# Altium footprint library gini_base_pcb.PCBLIB: 175 footprints (part 11 of 11)
Each footprint in its own frame and in the unit in brackets; x right, y up, seen from the top. Pads: shape width x height; smd on the part's side, far side on the other; paste and mask are expansions set on the pad; w line width, h text height; cw(c..) or ccw(c..) is an arc to the next point about the centre after c.
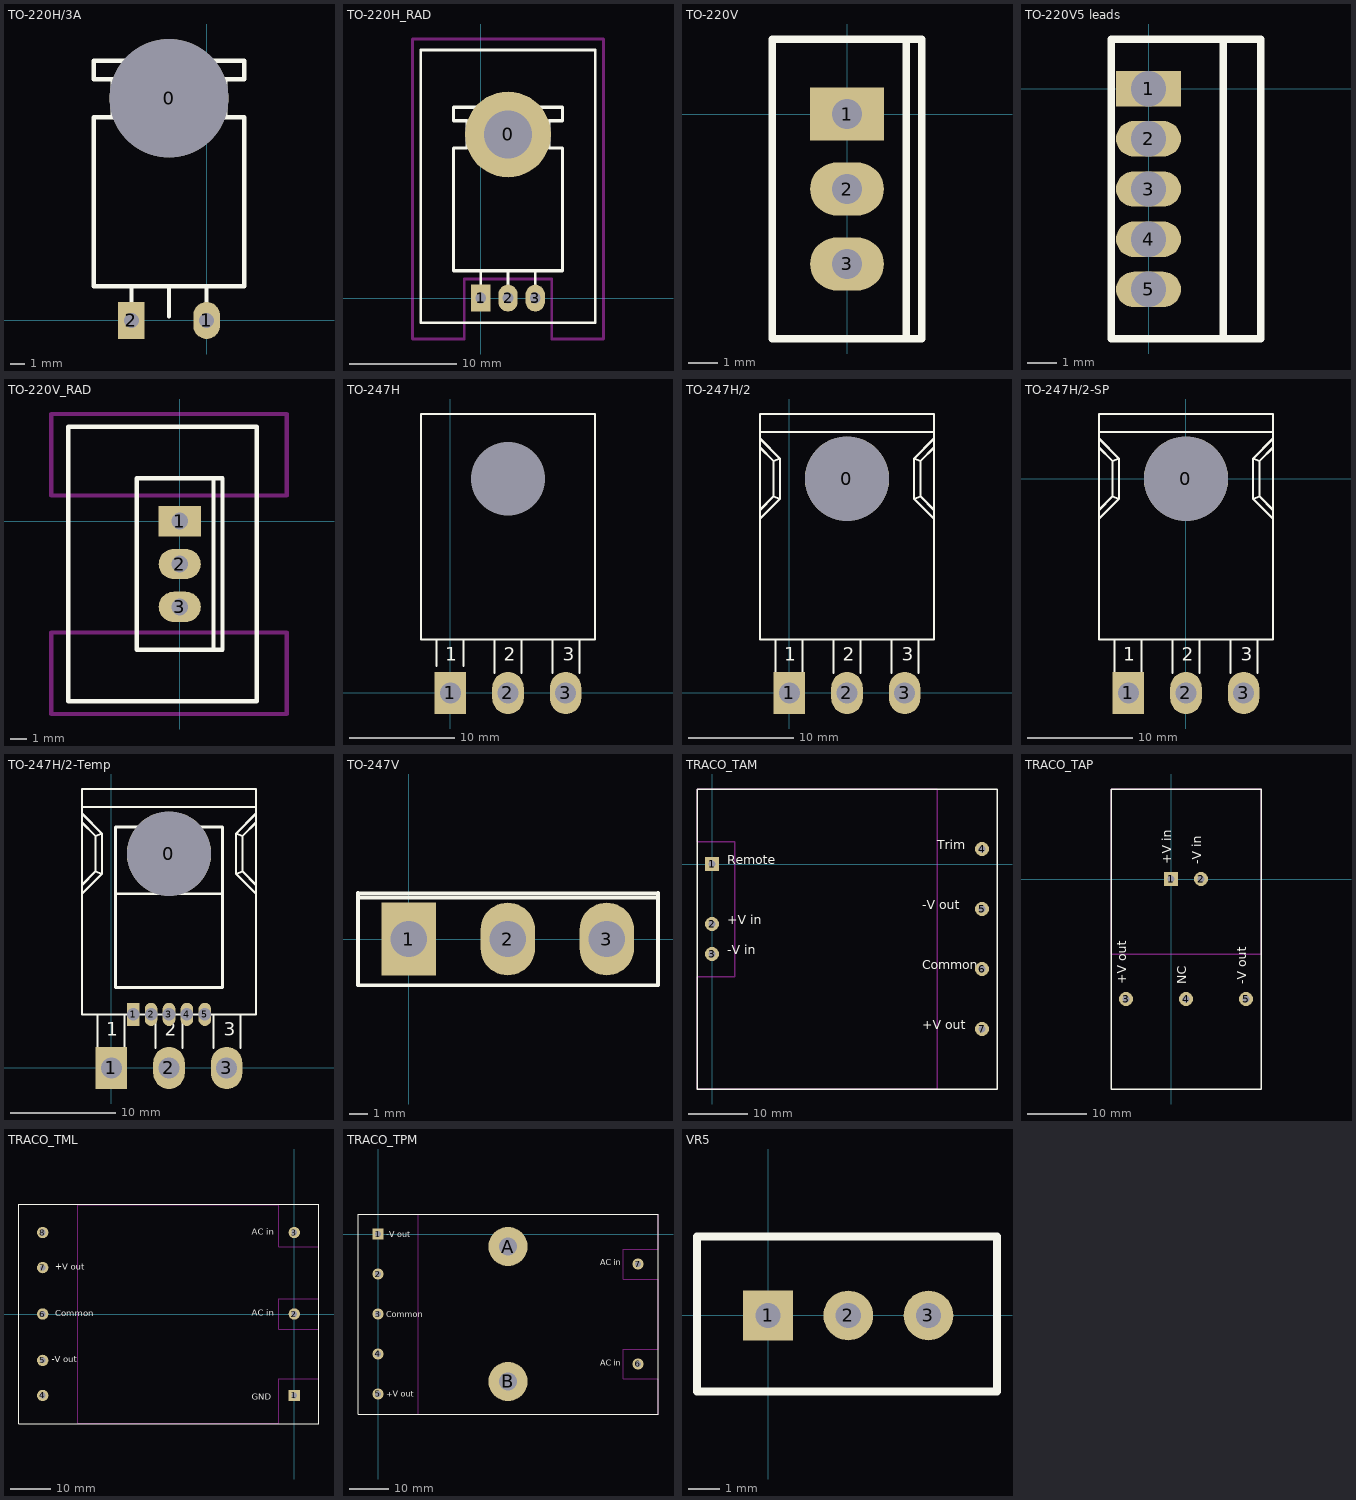
[diagram p10: the footprints below, top view; thin cyan lines are the x and y axes]

## TO-220H/3A [mm] "Pour fixation sur dissipateur en bottom"
pads (3):
  round 8 hole 8: 0(-2.54,15)
  oval 1.8x2.5 hole 1: 1(0,0)
  rect 1.8x2.5 hole 1: 2(-5.08,0)
TopOverlay:
  lines w0.254: -5.08,0.268 -5.08,2.3 ; -2.54,0.268 -2.54,2.3 ; 0,0.268 0,2.3
  lines w0.305: -7.62,2.3 2.54,2.3 2.54,13.73 1.27,13.73 1.27,16.27 2.54,16.27 2.54,17.54 -7.62,17.54 -7.62,16.27 -6.35,16.27 -6.35,13.73 -7.62,13.73 -7.62,2.3

## TO-220H_RAD [mm]
pads (4):
  round 8 hole 4.5: 0(2.54,15.24)
  rect 1.8x2.5 hole 1: 1(0,0)
  oval 1.8x2.5 hole 1: 2(2.54,0) 3(5.08,0)
TopLayer keep-out:
  lines w0.254: -6.35,-3.81 -1.524,-3.81 -1.524,1.778 6.604,1.778 6.604,-3.81 11.43,-3.81 11.43,24.13 -6.35,24.13 -6.35,-3.81
TopOverlay:
  lines w0.254: 0,0.508 0,2.54 ; 2.54,0.508 2.54,2.54 ; 5.08,0.508 5.08,2.54 ; -5.588,-2.286 10.668,-2.286 10.668,23.114 -5.588,23.114 -5.588,-2.286
  lines w0.305: -2.54,2.54 -2.54,13.97 -1.27,13.97 -1.27,16.51 -2.54,16.51 -2.54,17.78 7.62,17.78 7.62,16.51 6.35,16.51 6.35,13.97 7.62,13.97 7.62,2.54 -2.54,2.54

## TO-220V [mm]
pads (3):
  rect 2.5x1.8 hole 1: 1(0,0)
  oval 2.5x1.8 hole 1: 2(0,-2.54) 3(0,-5.08)
TopOverlay:
  lines w0.254: 2,-7.62 2,2.54 ; -2.54,-7.62 -2.54,2.54 2.54,2.54 2.54,-7.62 -2.54,-7.62

## TO-220V5 leads [mm]
pads (5):
  rect 2.2x1.2 hole 1.2: 1(0,0)
  oval 2.2x1.2 hole 1.2: 2(0,-1.7) 3(0,-3.4) 4(0,-5.1) 5(0,-6.8)
TopOverlay:
  lines w0.254: 2.54,-8.48 2.54,1.68 ; -1.27,-8.48 3.81,-8.48 3.81,1.68 -1.27,1.68 -1.27,-8.48

## TO-220V_RAD [mm]
pads (3):
  rect 2.5x1.8 hole 1: 1(0,0)
  oval 2.5x1.8 hole 1: 2(0,-2.54) 3(0,-5.08)
TopLayer keep-out:
  lines w0.254: -7.62,-11.43 6.35,-11.43 6.35,-6.604 -7.62,-6.604 -7.62,-11.43 ; -7.62,1.524 -7.62,6.35 6.35,6.35 6.35,1.524 -7.62,1.524
TopOverlay:
  lines w0.254: 2,-7.62 2,2.54 ; -6.604,-10.668 -6.604,5.588 4.572,5.588 4.572,-10.668 -6.604,-10.668 ; -2.54,-7.62 2.54,-7.62 2.54,2.54 -2.54,2.54 -2.54,-7.62

## TO-247H [mm]
pads (4):
  rect 3x4 hole 2: 1(0,0)
  oval 3x4 hole 2: 2(5.461,0) 3(10.922,0)
  round 0 hole 7: ""(5.461,20.32)
TopOverlay:
  lines w0.2: -1.312,2.54 -1.312,5.08 ; 1.228,2.54 1.228,5.08 ; 4.191,1.905 4.191,5.08 ; 6.731,1.905 6.731,5.08 ; 9.694,1.905 9.694,5.08 ; 12.234,1.905 12.234,5.08 ; -2.794,5.08 -2.794,26.458 13.716,26.458 13.716,5.08 -2.794,5.08
  text "3" at 10.668,3.048 h1.27
  text "2" at 5.08,3.048 h1.27
  text "1" at -0.508,3.048 h1.27

## TO-247H/2 [mm]
pads (4):
  round 8 hole 8: 0(5.461,20.32)
  rect 3x4 hole 2: 1(0,0)
  oval 3x4 hole 2: 2(5.461,0) 3(10.922,0)
TopOverlay:
  lines w0.2: -2.794,16.51 -0.889,18.415 ; -2.794,17.357 -1.524,18.627 ; -2.794,23.283 -1.524,22.013 ; -2.794,24.13 -0.889,22.225 ; -2.794,24.765 13.716,24.765 ; -1.312,1.905 -1.312,5.08 ; 1.228,1.905 1.228,5.08 ; 4.191,1.905 4.191,5.08 ; 6.731,1.905 6.731,5.08 ; 9.694,1.905 9.694,5.08 ; 12.234,1.905 12.234,5.08 ; 13.716,16.51 11.811,18.415 ; 13.716,17.357 12.446,18.627 ; 13.716,23.283 12.446,22.013 ; 13.716,24.13 11.811,22.225 ; -1.524,18.627 -1.524,22.013 ; -1.524,18.627 -0.889,18.415 ; -1.524,22.013 -0.889,22.225 ; -0.889,18.415 -0.889,22.225 ; 11.811,18.415 11.811,22.225 ; 11.811,18.415 12.446,18.627 ; 11.811,22.225 12.446,22.013 ; 12.446,18.627 12.446,22.013 ; -2.794,5.08 13.716,5.08 13.716,26.458 -2.794,26.458 -2.794,5.08
  text "1" at -0.508,3.048 h1.27
  text "2" at 5.08,3.048 h1.27
  text "3" at 10.668,3.048 h1.27

## TO-247H/2-SP [mm]
pads (4):
  round 8 hole 8: 0(0,0)
  rect 3x4 hole 2: 1(-5.461,-20.32)
  oval 3x4 hole 2: 2(0,-20.32) 3(5.461,-20.32)
TopOverlay:
  lines w0.2: -8.255,-3.81 -6.35,-1.905 ; -8.255,-2.963 -6.985,-1.693 ; -8.255,2.963 -6.985,1.693 ; -8.255,3.81 -6.35,1.905 ; -8.255,4.445 8.255,4.445 ; -6.773,-18.415 -6.773,-15.24 ; -4.233,-18.415 -4.233,-15.24 ; -1.27,-18.415 -1.27,-15.24 ; 1.27,-18.415 1.27,-15.24 ; 4.233,-18.415 4.233,-15.24 ; 6.773,-18.415 6.773,-15.24 ; 8.255,-3.81 6.35,-1.905 ; 8.255,-2.963 6.985,-1.693 ; 8.255,2.963 6.985,1.693 ; 8.255,3.81 6.35,1.905 ; -6.985,-1.693 -6.35,-1.905 ; -6.985,-1.693 -6.985,1.693 ; -6.985,1.693 -6.35,1.905 ; -6.35,-1.905 -6.35,1.905 ; 6.35,-1.905 6.985,-1.693 ; 6.35,-1.905 6.35,1.905 ; 6.35,1.905 6.985,1.693 ; 6.985,-1.693 6.985,1.693 ; -8.255,-15.24 -8.255,6.138 8.255,6.138 8.255,-15.24 -8.255,-15.24
  text "3" at 5.207,-17.272 h1.27
  text "2" at -0.381,-17.272 h1.27
  text "1" at -5.969,-17.272 h1.27

## TO-247H/2-Temp [mm]
pads (9):
  round 8 hole 8: 0(5.461,20.32)
  rect 3x4 hole 2: 1(0,0)
  rect 1.2x2.2 hole 1.2: 1(2.061,5.08)
  oval 1.2x2.2 hole 1.2: 2(3.761,5.08) 3(5.461,5.08) 4(7.161,5.08) 5(8.861,5.08)
  oval 3x4 hole 2: 2(5.461,0) 3(10.922,0)
TopOverlay:
  lines w0.2: -2.794,16.51 -0.889,18.415 ; -2.794,17.357 -1.524,18.627 ; -2.794,23.283 -1.524,22.013 ; -2.794,24.13 -0.889,22.225 ; -2.794,24.765 13.716,24.765 ; -1.312,1.905 -1.312,5.08 ; 1.228,1.905 1.228,5.08 ; 4.191,1.905 4.191,5.08 ; 6.731,1.905 6.731,5.08 ; 9.694,1.905 9.694,5.08 ; 12.234,1.905 12.234,5.08 ; 13.716,16.51 11.811,18.415 ; 13.716,17.357 12.446,18.627 ; 13.716,23.283 12.446,22.013 ; 13.716,24.13 11.811,22.225 ; -1.524,18.627 -0.889,18.415 ; -1.524,18.627 -1.524,22.013 ; -1.524,22.013 -0.889,22.225 ; -0.889,18.415 -0.889,22.225 ; 11.811,18.415 12.446,18.627 ; 11.811,18.415 11.811,22.225 ; 11.811,22.225 12.446,22.013 ; 12.446,18.627 12.446,22.013 ; -2.794,5.08 -2.794,26.458 13.716,26.458 13.716,5.08 -2.794,5.08
  lines w0.254: 0.381,16.51 10.541,16.51 ; 0.381,7.62 10.541,7.62 10.541,22.86 0.381,22.86 0.381,7.62
  text "3" at 10.668,3.048 h1.27
  text "2" at 5.08,3.048 h1.27
  text "1" at -0.508,3.048 h1.27

## TO-247V [mm]
pads (3):
  rect 3x4 hole 2: 1(0,0)
  oval 3x4 hole 2: 2(5.45,0) 3(10.9,0)
TopOverlay:
  lines w0.2: -2.794,2.286 13.716,2.286 ; -2.794,2.527 13.716,2.527 ; -2.794,2.54 -2.794,-2.54 13.716,-2.54 13.716,2.54
3D body: height 24.03, standoff -12.03, extent -2.159,-2.54 13.081,2.032

## TRACO_TAM [mm]
pads (7):
  rect 2.4x2.4 hole 1.2: 1(0,0)
  round 2.4 hole 1.2: 2(0,-10.16) 3(0,-15.24) 4(45.72,2.54) 5(45.72,-7.62) 6(45.72,-17.78) 7(45.72,-27.94)
TopLayer keep-out:
  lines w0.254: -2.54,-38.1 38.1,-38.1 38.1,12.7 -2.54,12.7 -2.54,3.81 3.81,3.81 3.81,-19.05 -2.54,-19.05 -2.54,-38.1
TopOverlay:
  lines w0.254: -2.54,-38.1 48.26,-38.1 48.26,12.7 -2.54,12.7 -2.54,-38.1
  text "+V out" at 35.56,-27.94 h1.52
  text "Common" at 35.56,-17.78 h1.52
  text "-V out" at 35.56,-7.62 h1.52
  text "Trim" at 38.1,2.54 h1.52
  text "-V in" at 2.54,-15.24 h1.52
  text "+V in" at 2.54,-10.16 h1.52
  text "Remote" at 2.54,0 h1.52

## TRACO_TAP [mm]
pads (5):
  rect 2.4x2.4 hole 1.2: 1(0,0)
  round 2.4 hole 1.2: 2(5.08,0) 3(-7.62,-20.32) 4(2.54,-20.32) 5(12.7,-20.32)
TopLayer keep-out:
  lines w0.254: -10.16,-12.7 -10.16,15.24 15.24,15.24 15.24,-12.7 -10.16,-12.7
TopOverlay:
  lines w0.254: -10.16,-35.56 15.24,-35.56 15.24,15.24 -10.16,15.24 -10.16,-35.56
  text "+V in" at 0,2.54 h1.52
  text "-V in" at 5.08,2.54 h1.52
  text "+V out" at -7.62,-17.78 h1.52
  text "-V out" at 12.7,-17.78 h1.52
  text "NC" at 2.54,-17.78 h1.52

## TRACO_TML [mm]
pads (8):
  rect 2.8x2.8 hole 1.4: 1(0,-20.066)
  round 2.8 hole 1.4: 2(0,0) 3(0,20.066) 4(-61.976,-20.066) 5(-61.976,-11.43) 6(-61.976,0) 7(-61.976,11.43) 8(-61.976,20.066)
TopLayer keep-out:
  lines w0.254: -53.34,-26.924 -3.81,-26.924 -3.81,-16.002 6.096,-16.002 6.096,-3.81 -3.81,-3.81 -3.81,3.81 6.096,3.81 6.096,16.51 -3.81,16.51 -3.81,26.924 -53.34,26.924 -53.34,-26.924
TopOverlay:
  lines w0.254: -67.818,-27.051 6.096,-27.051 6.096,27.051 -67.818,27.051 -67.818,-27.051
  text "AC in" at -10.414,19.558 h1.52
  text "+V out" at -58.928,10.922 h1.52
  text "Common" at -58.928,-0.508 h1.52
  text "-V out" at -59.69,-11.938 h1.52
  text "GND" at -10.414,-21.082 h1.52
  text "AC in" at -10.414,-0.381 h1.52

## TRACO_TPM [mm]
pads (9):
  rect 2.8x2.8 hole 1.4: 1(0,0)
  round 2.8 hole 1.4: 2(0,-10.16) 3(0,-20.32) 4(0,-30.48) 5(0,-40.64) 6(66.04,-33.02) 7(66.04,-7.62)
  round 10 hole 4.5: A(33.02,-3.175) B(33.02,-37.465)
TopLayer keep-out:
  lines w0.254: 10.16,-45.72 71.12,-45.72 71.12,-36.83 62.23,-36.83 62.23,-29.21 71.12,-29.21 71.12,-11.43 62.23,-11.43 62.23,-3.81 71.12,-3.81 71.12,5.08 10.16,5.08 10.16,-45.72
TopOverlay:
  lines w0.254: -5.08,-45.72 71.12,-45.72 71.12,5.08 20.32,5.08 -5.08,5.08 -5.08,-45.72
  text "AC in" at 56.388,-7.874 h1.52
  text "+V out" at 2.032,-41.402 h1.52
  text "Common" at 2.032,-21.082 h1.52
  text "-V out" at 2.032,-0.762 h1.52
  text "AC in" at 56.388,-33.528 h1.52

## VR5 [mil] "Potentiometre"
pads (3):
  rect 62x62 hole 31.5: 1(0,0)
  round 62 hole 31.5: 2(100,0) 3(200,0)
TopOverlay:
  lines w10: -88.58,-94.88 -88.58,98.43 285.43,98.43 285.43,-94.88 -88.58,-94.88
3D body: height 454.72, standoff -251.97, extent -88.19,-94.69 287.01,95.51